# Altium schematic symbol library EthernetPHY_TI_DP83865DVH.SchLib: 1 symbol
Pins are listed as number, name and electrical type; pins without a type are passive.

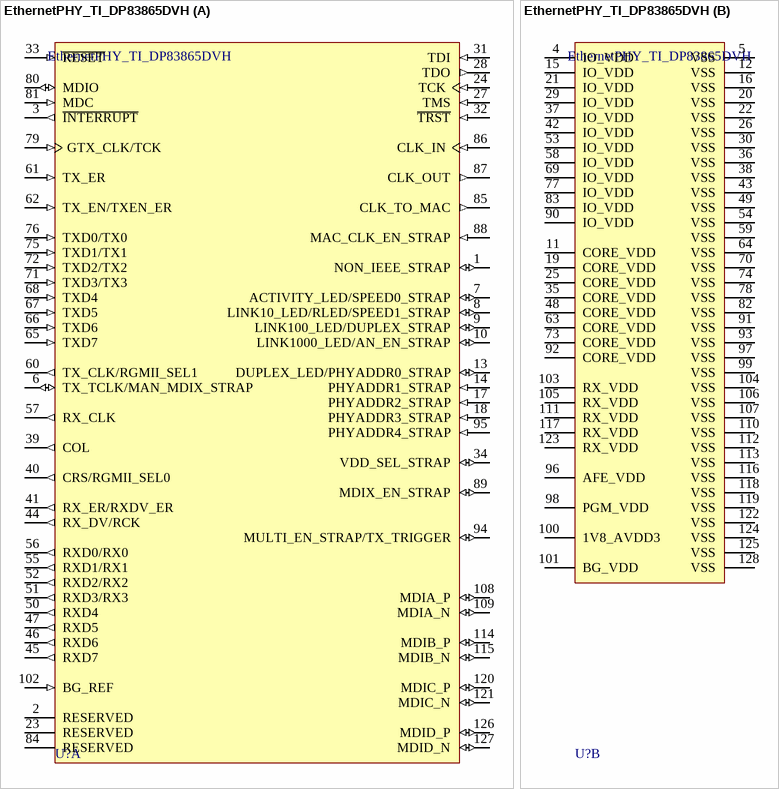
[diagram p0: symbol EthernetPHY_TI_DP83865DVH]

## EthernetPHY_TI_DP83865DVH
designator U?
footprint EthernetPHY_TI_DP83865(PQFP)_VLA128A_N (Shrink QFP, 128-Leads, Body 20x14 mm, Pitch 0.5mm, IPC Medium Density)
part A pins: 1 NON_IEEE_STRAP (io), 2 RESERVED, 3 ~{INTERRUPT} (out), 6 TX_TCLK/MAN_MDIX_STRAP (io), 7 ACTIVITY_LED/SPEED0_STRAP (io), 8 LINK10_LED/RLED/SPEED1_STRAP (io), 9 LINK100_LED/DUPLEX_STRAP (io), 10 LINK1000_LED/AN_EN_STRAP (io), 13 DUPLEX_LED/PHYADDR0_STRAP (io), 14 PHYADDR1_STRAP (in), 17 PHYADDR2_STRAP (in), 18 PHYADDR3_STRAP (in), 23 RESERVED, 24 TCK (in), 27 TMS (in), 28 TDO (out), 31 TDI (in), 32 ~{TRST} (in), 33 ~{RESET} (in), 34 VDD_SEL_STRAP (io), 39 COL (out), 40 CRS/RGMII_SEL0 (out), 41 RX_ER/RXDV_ER (out), 44 RX_DV/RCK (out), 45 RXD7 (out), 46 RXD6 (out), 47 RXD5 (out), 50 RXD4 (out), 51 RXD3/RX3 (out), 52 RXD2/RX2 (out), 55 RXD1/RX1 (out), 56 RXD0/RX0 (out), 57 RX_CLK (out), 60 TX_CLK/RGMII_SEL1 (out), 61 TX_ER (in), 62 TX_EN/TXEN_ER (in), 65 TXD7 (in), 66 TXD6 (in), 67 TXD5 (in), 68 TXD4 (in), 71 TXD3/TX3 (in), 72 TXD2/TX2 (in), 75 TXD1/TX1 (in), 76 TXD0/TX0 (in), 79 GTX_CLK/TCK (in), 80 MDIO (io), 81 MDC (in), 84 RESERVED, 85 CLK_TO_MAC (out), 86 CLK_IN (in), 87 CLK_OUT (out), 88 MAC_CLK_EN_STRAP (in), 89 MDIX_EN_STRAP (io), 94 MULTI_EN_STRAP/TX_TRIGGER (io), 95 PHYADDR4_STRAP (in), 102 BG_REF (in), 108 MDIA_P (io), 109 MDIA_N (io), 114 MDIB_P (io), 115 MDIB_N (io), 120 MDIC_P (io), 121 MDIC_N (io), 126 MDID_P (io), 127 MDID_N (io)
part B pins: 4 IO_VDD (power), 5 VSS (power), 11 CORE_VDD (power), 12 VSS (power), 15 IO_VDD (power), 16 VSS (power), 19 CORE_VDD (power), 20 VSS (power), 21 IO_VDD (power), 22 VSS (power), 25 CORE_VDD (power), 26 VSS (power), 29 IO_VDD (power), 30 VSS (power), 35 CORE_VDD (power), 36 VSS (power), 37 IO_VDD (power), 38 VSS (power), 42 IO_VDD (power), 43 VSS (power), 48 CORE_VDD (power), 49 VSS (power), 53 IO_VDD (power), 54 VSS (power), 58 IO_VDD (power), 59 VSS (power), 63 CORE_VDD (power), 64 VSS (power), 69 IO_VDD (power), 70 VSS (power), 73 CORE_VDD (power), 74 VSS (power), 77 IO_VDD (power), 78 VSS (power), 82 VSS (power), 83 IO_VDD (power), 90 IO_VDD (power), 91 VSS (power), 92 CORE_VDD (power), 93 VSS (power), 96 AFE_VDD (power), 97 VSS (power), 98 PGM_VDD (power), 99 VSS (power), 100 1V8_AVDD3 (power), 101 BG_VDD (power), 103 RX_VDD (power), 104 VSS (power), 105 RX_VDD (power), 106 VSS (power), 107 VSS (power), 110 VSS (power), 111 RX_VDD (power), 112 VSS (power), 113 VSS (power), 116 VSS (power), 117 RX_VDD (power), 118 VSS (power), 119 VSS (power), 122 VSS (power), 123 RX_VDD (power), 124 VSS (power), 125 VSS (power), 128 VSS (power)